# Altium integrated library Slide_Switches_rev15a.intlib: 2 symbols
Pins are listed as number, name and electrical type; pins without a type are passive.

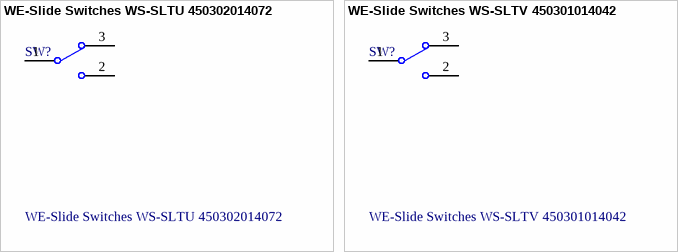
[diagram p0: symbols WE-Slide Switches WS-SLTU 450302014072 to WE-Slide Switches WS-SLTV 450301014042]

## WE-Slide Switches WS-SLTU 450302014072
designator SW?
WS-SLTU 10mm*2.5mm, SPDT, ON-ON, 2.54mm, right angle type, THT, Mini Slide Switch, 3 pins; Manufacturer: Würth Elektronik eiSos GmbH & Co.KG; ComponentLink1 Description: Manufacturer; ComponentLink2 Description: Datasheet; Creat by: Karrer Zheng; NoPins: 06; Creat Date: 20 March February 2014; partNo: 450302014072; ComponentLink1URL: http://www.we-online.com; ComponentLink2URL: http://katalog.we-online.de/em/datasheet/450302014072.pdf
footprint 450302014072 (10mm*2.5mm. SPDT, ON-ON, 2.54mm, right-angle type, THT, bulk)
pins: 1, 2, 3

## WE-Slide Switches WS-SLTV 450301014042
designator SW?
WS-SLTV 10mm*2.5mm, SPDT, ON-ON, 2.54mm, straight type, THT, Mini Slide Switch, 3 pins; Manufacturer: Würth Elektronik eiSos GmbH & Co.KG; ComponentLink1 Description: Manufacturer; ComponentLink2 Description: Datasheet; Creat by: Karrer Zheng; NoPins: 06; Creat Date: 21 March February 2014; partNo: 450301014042; ComponentLink1URL: http://www.we-online.com; ComponentLink2URL: http://katalog.we-online.de/em/datasheet/450301014042.pdf
footprint 450301014042 (10mm*2.5mm. SPDT, ON-ON, 2.54mm, horizontal type, THT, bulk)
pins: 1, 2, 3